# EAGLE library part CON_MICRO-SD (library evansLibrary)
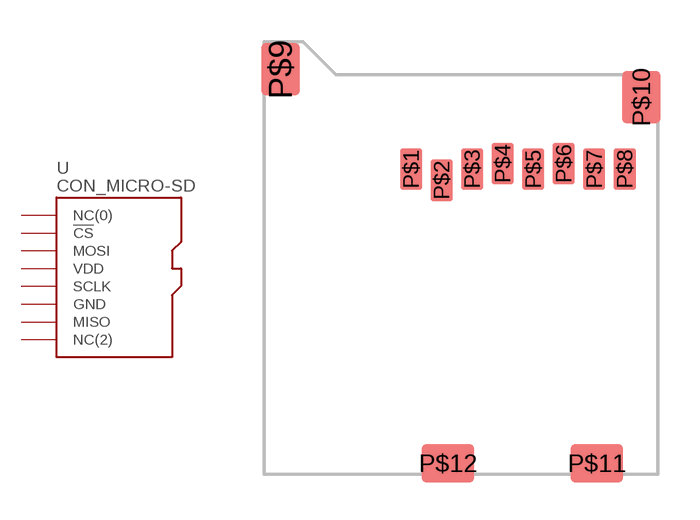
[diagram p6: symbol with the pads of CON_MICRO-SD; footprint CON_MICRO-SD]

Designator prefix -

## CON_MICRO-SD  [CON_MICRO-SD]
P$1  NC(0)
P$2  !CS
P$3  MOSI
P$4  VDD
P$5  SCLK
P$6  GND
P$7  MISO
P$8  NC(2)

## Footprint CON_MICRO-SD (pad centres in mm)
smd 0.8 x 1.5: P$1 5.3,11; P$2 6.4,10.6; P$3 7.5,11; P$4 8.6,11.2; P$5 9.7,11; P$6 10.8,11.2; P$7 11.9,11; P$8 13,11
smd 1.4 x 1.9: P$9 0.6,14.6; P$10 13.6,13.6
smd 1.9 x 1.4: P$11 12,0.4; P$12 6.635,0.4